# Altium schematic symbol library Schlib1.SchLib: 12 symbols
Pins are listed as number, name and electrical type; pins without a type are passive.

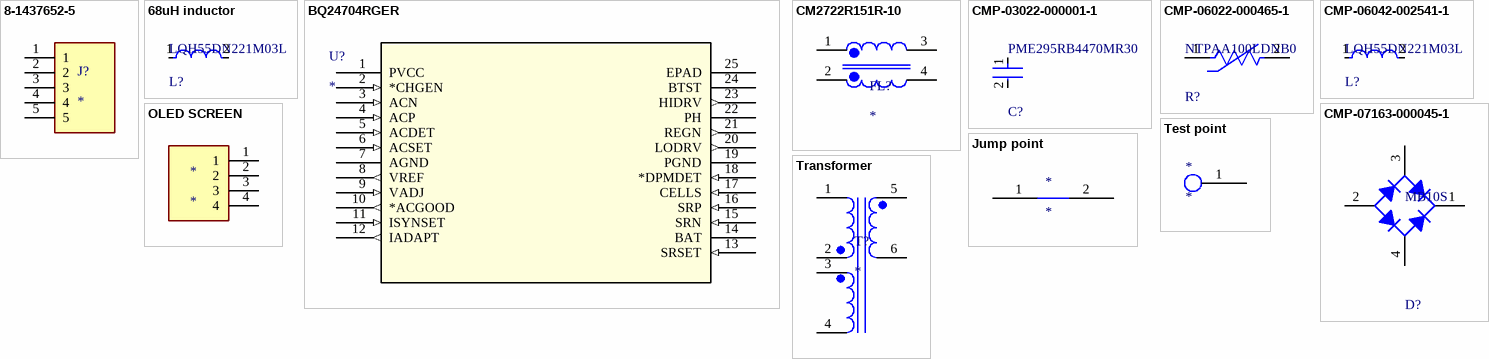
[diagram p0: symbols 8-1437652-5 to Transformer]

## 8-1437652-5
designator J?
MP: 8-1437652-5; Package: None; Price: None; Value: *; Availability: Unavailable
footprint Barrier Strip
pins: 1, 2, 3, 4, 5

## 68uH inductor
designator L?, comment LQH55DN221M03L
Wire Wound Ferrite Inductor for Power Lines 220μH ±20% 3.36Ω  0.32A 2220; Shielding: Unshielded; Current Rating: 320mA; Series Resistance: 2.4R; Inductance: 220uH; Self Resonant Frequency: 4MHz; Test Frequency: 100kHz; Weight: 0.016932oz; Case Code (Imperial): 2220; Width: 0.197inch; Radiation Hardening: No; Tolerance: 20%; Military Standard: Not; Case Code (Metric): 5750; Height - Seated (Max): 0.198inch; Depth: 5.3mm; Min Operating Temperature: -40°C; Lead Free: Lead Free; Case/Package: 2220; Length: 5.7mm; Max DC Current: 320mA; Termination: SMD/SMT; Height: 4.7mm; Package Quantity: 350; Packaging: Tape and Reel; Mount: Surface Mount; DC Current: 320mA; REACH SVHC: No SVHC; Resistor Type: Wirewound; Max Operating Temperature: 80°C; DC Resistance (DCR): 2.4R; Inductance Tolerance: 20%; Core Material: Ferrite
footprint FP-LQH55DN_03-MFG(68uH) - duplicate
pins: 1, 2

## BQ24704RGER
designator U?
Unknown; Manufacturer: Texas Instruments; GENERIC_PART_NUMBER: BQ24704; PIN_COUNT: 24; PACKAGE_DESIGNATOR: RGE; Datasheet_URL: Unknown; INDUSTRY_STD_PKG_TYPE: Unknown; FAMILY_NAME: Unknown; Copyright: Copyright (C) 2021 Accelerated Designs. All rights reserved; RefDes: RefDes; Type: DEV
footprint RGE24_2P45X2P45
pins: 1 PVCC (power), 2 *CHGEN (in), 3 ACN (in), 4 ACP (in), 5 ACDET (in), 6 ACSET (in), 7 AGND (power), 8 VREF (out), 9 VADJ (in), 10 *ACGOOD (out), 11 ISYNSET (in), 12 IADAPT (out), 13 SRSET (in), 14 BAT, 15 SRN (in), 16 SRP (in), 17 CELLS (in), 18 *DPMDET (in), 19 PGND (power), 20 LODRV (out), 21 REGN (out), 22 PH, 23 HIDRV (out), 24 BTST, 25 EPAD (power)

## CM2722R151R-10
designator FL?
4 Line Common Mode Choke Surface Mount 150 Ohms @ 100MHz 5A DCR 20mOhm; MP: CM2722R151R-10; MF: Laird; Purchase-URL: https://pricing.snapeda.com/search/part/CM2722R151R-10/?ref=eda; Package: Vertical-8 Laird; Value: *; SnapEDA_Link: https://www.snapeda.com/parts/CM2722R151R-10/Laird/view-part/1550305/?ref=snap; Availability: In Stock; Price: None; Check_prices: https://www.snapeda.com/parts/CM2722R151R-10/Laird/view-part/1550305/?ref=eda
footprint FIL_CM2722R151R-10
pins: 1, 2, 3, 4

## CMP-03022-000001-1
designator C?, comment PME295RB4470MR30
CAP FILM 4700PF 20% 1.5KVDC RAD; Manufacturer: Kemet; Material: Metallized Impregnated Paper; Value: 0.0047uF; Voltage Rating: 1500V; Voltage Rating Ac: 480V; Lead Free: Yes; Category: Cap; ComponentLink2URL: https://content.kemet.com/datasheets/KEM_F3064_PME295_Y1_440-480.pdf; RoHS: TRUE; ComponentLink2Description: Datasheet; Device Class L1: Passive Components; Octopart: https://octopart.com/pme295rb4470mr30-kemet-8375873; Temperature: -40°C to +115°C; Temperature Range Low: -40°C; Automotive: No; Height: 16mm; Mouser Description: Film Capacitors 440volts 4700pF 20% LS 15mm; Capacitance: 0.0047uF; Temperature Range High: +115°C; Tolerance: 20%; Device Class L3: Film Capacitors; Device Class L2: Capacitors; Package: 0; Digikey Description: CAP FILM 4700PF 20% 1.5KVDC RAD; Manufacturer Part Number: PME295RB4470MR30
footprint FP-PME295RB4470MR30-MFG
pins: 1, 2

## CMP-06022-000465-1
designator R?, comment NTPAA100LDNB0
ICL 10 OHM 15% 1.7A 10MM; Mount: Through Hole; Lead Free: Lead Free; Tolerance: 15%; Lead Pitch: 0.295inch; Max Operating Temperature: 160°C; Radiation Hardening: No; Diameter: 0.394inch; Current Rating: 1.7A; Min Operating Temperature: -20°C; Packaging: Bulk; Number of Pins: 2; Depth: 5mm; Thickness: 5mm
footprint FP-NTPAA-MFG
pins: 1, 2

## CMP-06042-002541-1
designator L?, comment LQH55DN221M03L
Wire Wound Ferrite Inductor for Power Lines 220μH ±20% 3.36Ω  0.32A 2220; Shielding: Unshielded; Current Rating: 320mA; Series Resistance: 2.4R; Inductance: 220uH; Self Resonant Frequency: 4MHz; Test Frequency: 100kHz; Weight: 0.016932oz; Case Code (Imperial): 2220; Width: 0.197inch; Radiation Hardening: No; Tolerance: 20%; Military Standard: Not; Case Code (Metric): 5750; Height - Seated (Max): 0.198inch; Depth: 5.3mm; Min Operating Temperature: -40°C; Lead Free: Lead Free; Case/Package: 2220; Length: 5.7mm; Max DC Current: 320mA; Termination: SMD/SMT; Height: 4.7mm; Package Quantity: 350; Packaging: Tape and Reel; Mount: Surface Mount; DC Current: 320mA; REACH SVHC: No SVHC; Resistor Type: Wirewound; Max Operating Temperature: 80°C; DC Resistance (DCR): 2.4R; Inductance Tolerance: 20%; Core Material: Ferrite
footprint FP-LQH55DN_03-MFG(100uH)
pins: 1, 2

## CMP-07163-000045-1
designator D?, comment MB10S
BRIDGE RECT 1P 1KV 500MA 4SOIC; Capacitance: 470pF; Forward Current: 800mA; Element Configuration: Single; Number of Elements: 1; Max Forward Surge Current (Ifsm): 35A; Lead/Base Style: Formed Leads; Forward Voltage: 1V; Tolerance: 10%; Voltage Rating: 500V; Max Power Dissipation: 1.4W; Peak Reverse Current: 5uA; Case/Package: SOIC; Min Operating Temperature: -55°C; Package Quantity: 500; Height: 2.7mm; Mount: Surface Mount; Average Rectified Current: 500mA; Radiation Hardening: No; Width: 4.2mm; Peak Non-Repetitive Surge Current: 35A; REACH SVHC: No SVHC; Max Repetitive Reverse Voltage (Vrrm): 1kV; Weight: 0.228g; Length: 4.95mm; Height - Seated (Max): 0.354inch; Case Code (Imperial): 1206; Thickness: 0.039inch; Packaging: Tape and Reel; Lead Free: Lead Free; Case Code (Metric): 3216; Contact Plating: Tin; Reverse Voltage (DC): 1kV; Number of Pins: 4; Max Operating Temperature: 150°C; Lead Pitch: 0.197inch; Max Surge Current: 35A
footprint FP-751EP-MFG
footprint FP-751EP-IPC_C
footprint FP-751EP-IPC_B
footprint FP-751EP-MFG
pins: 1, 2, 3, 4

## Jump point
designator *
footprint jump poınt
pins: 1 0, 2

## OLED SCREEN
designator *
footprint OLED SCREEN
pins: 1, 2, 3, 4

## Test point
designator *
footprint Test Point
pins: 1 0

## Transformer
designator T?
International One-4-All Triple Output Transformer | 30VA Power | 115V/230V Input; MP: 14A-30-515; MF: Bel; Price: None; Value: *; Package: Non-Standard Signal Transformer; Purchase-URL: https://pricing.snapeda.com/search/part/14A-30-515/?ref=eda; SnapEDA_Link: https://www.snapeda.com/parts/14A-30-515/Signal%20Transformer/view-part/3603902/?ref=snap; Availability: Bad
footprint Transformer
pins: 1, 2, 3, 4, 5, 6